# Altium footprint library Wifi-Vista_REV.PcbLib: 2 footprints
Each footprint in its own frame and in the unit in brackets; x right, y up, seen from the top. Pads: shape width x height; smd on the part's side, far side on the other; paste and mask are expansions set on the pad; w line width, h text height; cw(c..) or ccw(c..) is an arc to the next point about the centre after c.
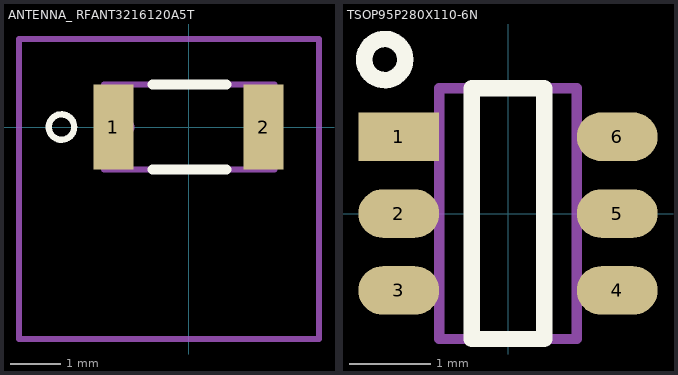
[diagram p0: the footprints below, top view; thin cyan lines are the x and y axes]

## ANTENNA_ RFANT3216120A5T [mm]
height 1.3
pads (2):
  rect 0.8x1.7 smd: 1(-1.5,0) 2(1.5,0)
Top Overlay:
  circle w0.127: c-2.54,0 r0.254
  lines w0.203: -0.723,-0.85 0.762,-0.85 ; -0.723,0.85 0.762,0.85
Mechanical 1:
  text "'.Designator'" at 0,0 h1.52
Mechanical 15:
  circle w0.127: c-1.27,0 r0.127
  lines w0.127: -3.39,1.761 -3.39,-4.239 2.61,-4.239 2.61,1.761 -3.39,1.761 ; -3.39,1.761 -3.39,1.761 ; -1.687,-0.85 -1.687,0.85 1.713,0.85 1.713,-0.85 -1.687,-0.85 ; 2.155,-4.239 2.155,-4.239
Multi-Layer:
  pour cut-out: -3.39,1.761 -3.39,-4.239 2.61,-4.239 2.61,1.761
3D body: height 1.3, standoff 0, extent -1.687,-0.85 1.713,0.85

## TSOP95P280X110-6N [mm] "TSOP, 6-Leads, Body 3.00x1.50mm, Pitch 0.95mm, IPC Medium Density"
height 1.1
pads (6):
  rect 1x0.6 smd: 1(-1.35,0.95)
  oval 1x0.6 smd: 2(-1.35,0) 3(-1.35,-0.95) 4(1.35,-0.95) 5(1.35,0) 6(1.35,0.95)
Top Overlay:
  circle w0.203: c-1.524,1.905 r0.254
  lines w0.203: -0.45,-1.55 -0.45,1.55 0.45,1.55 0.45,-1.55 -0.45,-1.55
Mechanical 1:
  text "'.Designator'" at 0,0 h1.52
Mechanical 15:
  circle w0.127: c-1.35,0.95 r0.203
  lines w0.127: -0.85,-1.55 -0.85,1.55 0.85,1.55 0.85,-1.55 -0.85,-1.55
3D body "TSOP95P280X110-6N.step": height 1.1, standoff 0, extent -1.375,-1.55 1.375,1.55